# Altium schematic symbol library BTM7752G.SchLib: 1 symbol
Pins are listed as number, name and electrical type; pins without a type are passive.

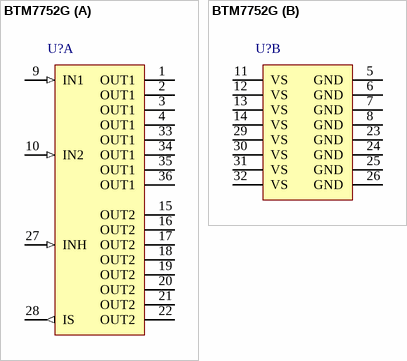
[diagram p0: symbol BTM7752G]

## BTM7752G
designator U?
High Current H-Bridge Trilith IC 3G, 5.5 to 28 V, -40 to 150 degC, PG-DSO-36-29, Reel, Green; Manufacturer: Infineon; PartNumber: BTM7752G; Green: TRUE; ID(lim): 12 A; ID(lim) (min): 8 A; Iq (typ): 5 uA; Protect: OV, UV, OT, OC; RDS(on) (typ): 150 mOhm; VS (max): 45 V; DatasheetVersion: Rev. 2.0; PackageVersion: May-10; PackageReference: PG-DSO-36-29; PackageDescription: 36-Pin Plastic (Green) Dual Small Outline Package, 12.7 x 7.5 mm Body, 0.65 mm Pitch; Supplier 1: Digi-Key; Supplier Part Number 1: BTM7752GTR-ND; Supplier 2: Digi-Key; Supplier Part Number 2: BTM7752GCT-ND; Supplier 3: Digi-Key; Supplier Part Number 3: BTM7752GDKR-ND; Supplier 4: Farnell; Supplier Part Number 4: 2215539; Supplier 5: Newark; Supplier Part Number 5: 47W3375; Supplier 6: Mouser; Supplier Part Number 6: 726-BTM7752G; Group: TrilithIC; Halogen-free: TRUE; Inhibit: TRUE; Operating Range: 5.5 to 28 V; Mounting Technology: Surface Mount; ComponentLink1Description: Manufacturer URL; ComponentLink1URL: http://www.infineon.com/; ComponentLink2Description: Datasheet; ComponentLink2URL: http://www.infineon.com/dgdl/BTM7752G-Data-Sheet-20.pdf?folderId=db3a3043156fd5730116144c5d101c30&fileId=db3a30432e1525b3012e24c6ed042357&location=en.Products.Automotive_ICs.Motor_Drivers__Automotive_.Integrated_High_Current_Motor_Drivers__NovalithIC____Trilith_IC_.DATASHEET.BTM7752G-Data-Sheet-20.pdf; ComponentLink3Description: Package Specification; ComponentLink3URL: http://www.infineon.com/dgdl/BTM7752G-Data-Sheet-20.pdf?folderId=db3a3043156fd5730116144c5d101c30&fileId=db3a30432e1525b3012e24c6ed042357&sId=db3a30433d68e984013d7f683b5c74f9
footprint INF-PG-DSO-36-29_N (SOP, 36-Leads, Body 12.7x7.5mm, Pitch 0.65mm, IPC Medium Density)
footprint INF-PG-DSO-36-29_L (SOP, 36-Leads, Body 12.7x7.5mm, Pitch 0.65mm, IPC High Density)
footprint INF-PG-DSO-36-29_M (SOP, 36-Leads, Body 12.7x7.5mm, Pitch 0.65mm, IPC Low Density)
part A pins: 1 OUT1 (power) "Output of first half bridge", 2 OUT1 (power) "Output of first half bridge", 3 OUT1 (power) "Output of first half bridge", 4 OUT1 (power) "Output of first half bridge", 9 IN1 (in) "Input of first half bridge", 10 IN2 (in) "Input of second half bridge", 15 OUT2 (power) "Output of second half bridge", 16 OUT2 (power) "Output of second half bridge", 17 OUT2 (power) "Output of second half bridge", 18 OUT2 (power) "Output of second half bridge", 19 OUT2 (power) "Output of second half bridge", 20 OUT2 (power) "Output of second half bridge", 21 OUT2 (power) "Output of second half bridge", 22 OUT2 (power) "Output of second half bridge", 27 INH (in) "Inhibit pin, to set device in sleep/stand-by mode", 28 IS (out) "Current sense and error signal", 33 OUT1 (power) "Output of first half bridge", 34 OUT1 (power) "Output of first half bridge", 35 OUT1 (power) "Output of first half bridge", 36 OUT1 (power) "Output of first half bridge"
part B pins: 5 GND (power) "Ground", 6 GND (power) "Ground", 7 GND (power) "Ground", 8 GND (power) "Ground", 11 VS (power) "Supply, all pins to be connected and shorted externally", 12 VS (power) "Supply, all pins to be connected and shorted externally", 13 VS (power) "Supply, all pins to be connected and shorted externally", 14 VS (power) "Supply, all pins to be connected and shorted externally", 23 GND (power) "Ground", 24 GND (power) "Ground", 25 GND (power) "Ground", 26 GND (power) "Ground", 29 VS (power) "Supply, all pins to be connected and shorted externally", 30 VS (power) "Supply, all pins to be connected and shorted externally", 31 VS (power) "Supply, all pins to be connected and shorted externally", 32 VS (power) "Supply, all pins to be connected and shorted externally"